# EAGLE library part PCF85063 (library NXP)
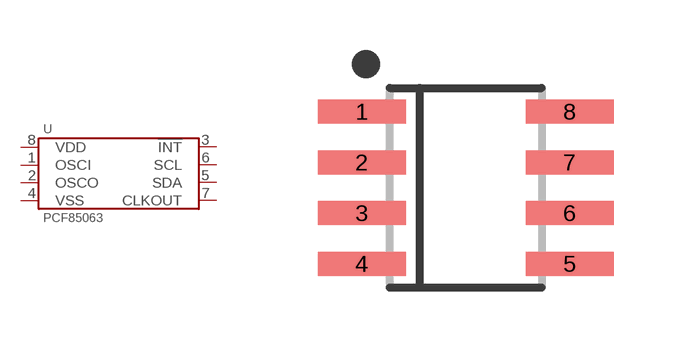
[diagram p4: symbol with the pads of SOIC-8; footprint SOIC-8]

Designator prefix U

## PCF85063AT/AY  [SOIC-8]
1  OSCI
2  OSCO
3  !INT
4  VSS
5  SDA
6  SCL
7  CLKOUT
8  VDD

## Footprint SOIC-8 (pad centres in mm)
smd 2.2 x 0.6: 1 -2.6,1.905; 2 -2.6,0.635; 3 -2.6,-0.635; 4 -2.6,-1.905; 5 2.6,-1.905; 6 2.6,-0.635; 7 2.6,0.635; 8 2.6,1.905